# Altium footprint library BR-6.PcbLib: 1 footprints
Each footprint in its own frame and in the unit in brackets; x right, y up, seen from the top. Pads: shape width x height; smd on the part's side, far side on the other; paste and mask are expansions set on the pad; w line width, h text height; cw(c..) or ccw(c..) is an arc to the next point about the centre after c.
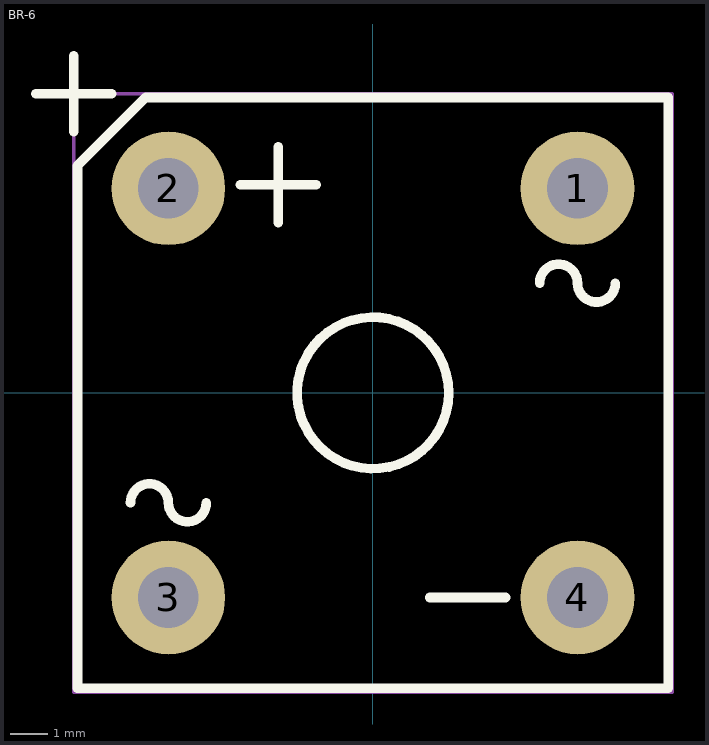
[diagram p0: the footprint, top view; thin cyan lines are the x and y axes]

## BR-6 [mm]
pads (4):
  round 3 hole 1.6: 1(5.4,5.4) 2(-5.4,5.4) 3(-5.4,-5.4) 4(5.4,-5.4)
Top Overlay:
  circle w0.254: c0,0 r2
  lines w0.254: -8.9,7.9 -6.9,7.9 ; -7.9,6.9 -7.9,8.9 ; -6.4,-2.9 cw(c-5.9,-2.9) -5.4,-2.9 ccw(c-4.9,-2.9) -4.4,-2.9 ; -3.5,5.5 -1.5,5.5 ; -2.5,4.5 -2.5,6.5 ; 1.5,-5.4 3.5,-5.4 ; 4.4,2.9 cw(c4.9,2.9) 5.4,2.9 ccw(c5.9,2.9) 6.4,2.9 ; -7.8,-7.8 -7.8,6 -6,7.8 7.8,7.8 7.8,-7.8 -7.8,-7.8
Mechanical 13:
  lines w0.1: -7.9,-7.9 -7.9,7.9 7.9,7.9 7.9,-7.9 -7.9,-7.9